# Altium integrated library Analog Devices Operational Amplifiers.IntLib: 2102 symbols (part 17 of 70)
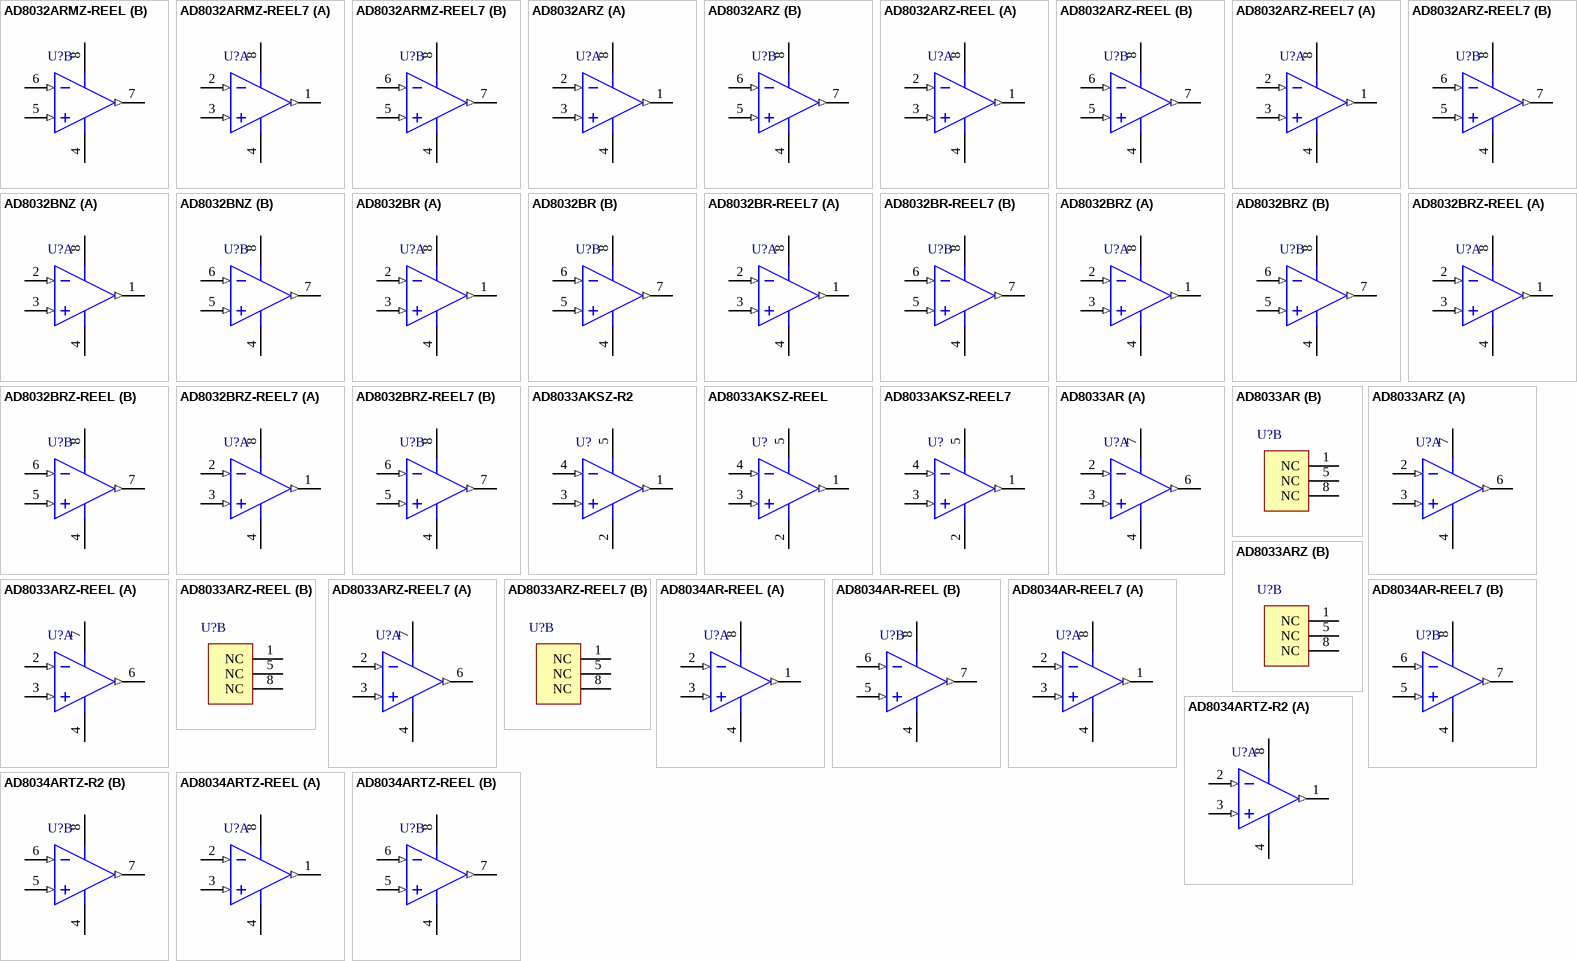
[diagram p130: symbols AD8032ARMZ-REEL to AD8034ARTZ-REEL]

## AD8032BRZ-REEL7
designator U?
Double Channel RRIO Operational Amplifier, 80 MHz BW, 35 V/us SR, Industrial, 8-pin SOIC (R-8), Reel; Generic Part Number: AD8032; Manufacturer: Analog Devices; PartNumber: AD8032BRZ-REEL7; Amplifiers Per Package: 2; Input Bias Current: 450nA; Input Offset Voltage: 0.5mV; Iq/Amp: 1.6mA; Slew Rate: 35V/us; Small Signal Bandwidth: 80MHz; V Span Max: 12V; V Span Min: 2.7V; DatasheetVersion: Rev. D; PackageVersion: 060506-A; PackageReference: R-8; PackageDescription: 8-Pin Standard Small Outline Package, Body 3.9 x 4.9 mm, Pitch 1.27 mm; Supplier 1: Digi-Key; Supplier Part Number 1: AD8032BRZ-REEL7TR-ND; Supplier 2: Digi-Key; Supplier Part Number 2: AD8032BRZ-REEL7CT-ND; Supplier 3: Digi-Key; Supplier Part Number 3: AD8032BRZ-REEL7DKR-ND; Supplier 4: Newark; Supplier Part Number 4: 59K6242; Packing: Reel; Mounting Technology: Surface Mount; Code_JEDEC: MS-012-AA; ComponentLink1Description: Manufacturer URL; ComponentLink1URL: http://www.analog.com/en/index.html; ComponentLink2Description: Datasheet; ComponentLink2URL: http://www.analog.com/static/imported-files/data_sheets/AD8031_8032.pdf; ComponentLink3Description: Package Specification; ComponentLink3URL: http://www.analog.com/static/imported-files/packages/PKG_PDF/SOIC_Narrow%20(R)/R_8.pdf; ComponentLink4Description: Reference Circuit; ComponentLink4URL: http://www.analog.com/en/all-operational-amplifiers-op-amps/operational-amplifiers-op-amps/ad8032/products/product.html#product-recommendations
footprint ADI-R-8_N (SOIC, 8-Leads, Body 4.9x3.9mm, Pitch 1.27mm, IPC Medium Density)
footprint ADI-R-8_L (SOIC, 8-Leads, Body 4.9x3.9mm, Pitch 1.27mm, IPC High Density)
footprint ADI-R-8_M (SOIC, 8-Leads, Body 4.9x3.9mm, Pitch 1.27mm, IPC Low Density)
pins on every part: 4 -VS (power), 8 +VS (power)
part A pins: 1 OUT 1 (out), 2 -IN 1 (in), 3 +IN 1 (in)
part B pins: 5 +IN 2 (in), 6 -IN 2 (in), 7 OUT 2 (out)

## AD8033AKSZ-R2
designator U?
Single Channel Very Low Cost Operational Amplifier, 80 MHz BW, 80 V/us SR, Industrial, 5-pin SOT23 (KS-5), Reel; Generic Part Number: AD8033; Manufacturer: Analog Devices; PartNumber: AD8033AKSZ-R2; Amplifiers Per Package: 1; Input Bias Current: 1.5pA; Input Offset Voltage: 1mV; Iq/Amp: 3.5mA; Slew Rate: 80V/us; Small Signal Bandwidth: 80MHz; V Span Max: 24V; V Span Min: 5V; DatasheetVersion: Rev. D; PackageVersion: 072809-A; PackageReference: KS-5; PackageDescription: 5-Pin Thin Shrink Small Outline Transistor Package, Body 2 x 1.25 mm, Pitch 0.65 mm; Supplier 1: Newark; Supplier Part Number 1: 28M4089; Mounting Technology: Surface Mount; Code_JEDEC: MO-203-AA; ComponentLink1Description: Manufacturer URL; ComponentLink1URL: http://www.analog.com/en/index.html; ComponentLink2Description: Datasheet; ComponentLink2URL: http://www.analog.com/static/imported-files/data_sheets/AD8033_8034.pdf; ComponentLink3Description: Package Specification; ComponentLink3URL: http://www.analog.com/static/imported-files/packages/PKG_PDF/SC70(KS)/KS_5.pdf
footprint ADI-KS-5_N (SOT23, 5-Leads, Body 2x1.25mm, Pitch 0.65mm, IPC Medium Density)
footprint ADI-KS-5_L (SOT23, 5-Leads, Body 2x1.25mm, Pitch 0.65mm, IPC High Density)
footprint ADI-KS-5_M (SOT23, 5-Leads, Body 2x1.25mm, Pitch 0.65mm, IPC Low Density)
pins: 1 VOUT (out), 2 -VS (power), 3 +IN (in), 4 -IN (in), 5 +VS (power)

## AD8033AKSZ-REEL
designator U?
Single Channel Very Low Cost Operational Amplifier, 80 MHz BW, 80 V/us SR, Industrial, 5-pin SOT23 (KS-5), Reel; Generic Part Number: AD8033; Manufacturer: Analog Devices; PartNumber: AD8033AKSZ-REEL; Amplifiers Per Package: 1; Input Bias Current: 1.5pA; Input Offset Voltage: 1mV; Iq/Amp: 3.5mA; Slew Rate: 80V/us; Small Signal Bandwidth: 80MHz; V Span Max: 24V; V Span Min: 5V; DatasheetVersion: Rev. D; PackageVersion: 072809-A; PackageReference: KS-5; PackageDescription: 5-Pin Thin Shrink Small Outline Transistor Package, Body 2 x 1.25 mm, Pitch 0.65 mm; Supplier 1: Digi-Key; Supplier Part Number 1: AD8033AKSZ-REEL-ND; Mounting Technology: Surface Mount; Code_JEDEC: MO-203-AA; ComponentLink1Description: Manufacturer URL; ComponentLink1URL: http://www.analog.com/en/index.html; ComponentLink2Description: Datasheet; ComponentLink2URL: http://www.analog.com/static/imported-files/data_sheets/AD8033_8034.pdf; ComponentLink3Description: Package Specification; ComponentLink3URL: http://www.analog.com/static/imported-files/packages/PKG_PDF/SC70(KS)/KS_5.pdf
footprint ADI-KS-5_N (SOT23, 5-Leads, Body 2x1.25mm, Pitch 0.65mm, IPC Medium Density)
footprint ADI-KS-5_L (SOT23, 5-Leads, Body 2x1.25mm, Pitch 0.65mm, IPC High Density)
footprint ADI-KS-5_M (SOT23, 5-Leads, Body 2x1.25mm, Pitch 0.65mm, IPC Low Density)
pins: 1 VOUT (out), 2 -VS (power), 3 +IN (in), 4 -IN (in), 5 +VS (power)

## AD8033AKSZ-REEL7
designator U?
Single Channel Very Low Cost Operational Amplifier, 80 MHz BW, 80 V/us SR, Industrial, 5-pin SOT23 (KS-5), Reel; Generic Part Number: AD8033; Manufacturer: Analog Devices; PartNumber: AD8033AKSZ-REEL7; Amplifiers Per Package: 1; Input Bias Current: 1.5pA; Input Offset Voltage: 1mV; Iq/Amp: 3.5mA; Slew Rate: 80V/us; Small Signal Bandwidth: 80MHz; V Span Max: 24V; V Span Min: 5V; DatasheetVersion: Rev. D; PackageVersion: 072809-A; PackageReference: KS-5; PackageDescription: 5-Pin Thin Shrink Small Outline Transistor Package, Body 2 x 1.25 mm, Pitch 0.65 mm; Supplier 1: Digi-Key; Supplier Part Number 1: AD8033AKSZ-REEL7TR-ND; Supplier 2: Digi-Key; Supplier Part Number 2: AD8033AKSZ-REEL7CT-ND; Supplier 3: Digi-Key; Supplier Part Number 3: AD8033AKSZ-REEL7DKR-ND; Supplier 4: Newark; Supplier Part Number 4: 59K6244; Mounting Technology: Surface Mount; Code_JEDEC: MO-203-AA; ComponentLink1Description: Manufacturer URL; ComponentLink1URL: http://www.analog.com/en/index.html; ComponentLink2Description: Datasheet; ComponentLink2URL: http://www.analog.com/static/imported-files/data_sheets/AD8033_8034.pdf; ComponentLink3Description: Package Specification; ComponentLink3URL: http://www.analog.com/static/imported-files/packages/PKG_PDF/SC70(KS)/KS_5.pdf
footprint ADI-KS-5_N (SOT23, 5-Leads, Body 2x1.25mm, Pitch 0.65mm, IPC Medium Density)
footprint ADI-KS-5_L (SOT23, 5-Leads, Body 2x1.25mm, Pitch 0.65mm, IPC High Density)
footprint ADI-KS-5_M (SOT23, 5-Leads, Body 2x1.25mm, Pitch 0.65mm, IPC Low Density)
pins: 1 VOUT (out), 2 -VS (power), 3 +IN (in), 4 -IN (in), 5 +VS (power)

## AD8033AR
designator U?
Single Channel Very Low Cost Operational Amplifier, 80 MHz BW, 80 V/us SR, Industrial, 8-pin SOIC (R-8), Tube; Generic Part Number: AD8033; Manufacturer: Analog Devices; PartNumber: AD8033AR; Amplifiers Per Package: 1; Input Bias Current: 1.5pA; Input Offset Voltage: 1mV; Iq/Amp: 3.5mA; Slew Rate: 80V/us; Small Signal Bandwidth: 80MHz; V Span Max: 24V; V Span Min: 5V; DatasheetVersion: Rev. D; PackageVersion: 060506-A; PackageReference: R-8; PackageDescription: 8-Pin Standard Small Outline Package, Body 3.9 x 4.9 mm, Pitch 1.27 mm; Supplier 1: Digi-Key; Supplier Part Number 1: AD8033AR-ND; Mounting Technology: Surface Mount; Code_JEDEC: MS-012-AA; ComponentLink1Description: Manufacturer URL; ComponentLink1URL: http://www.analog.com/en/index.html; ComponentLink2Description: Datasheet; ComponentLink2URL: http://www.analog.com/static/imported-files/data_sheets/AD8033_8034.pdf; ComponentLink3Description: Package Specification; ComponentLink3URL: http://www.analog.com/static/imported-files/packages/PKG_PDF/SOIC_Narrow%20(R)/R_8.pdf
footprint ADI-R-8_N (SOIC, 8-Leads, Body 4.9x3.9mm, Pitch 1.27mm, IPC Medium Density)
footprint ADI-R-8_L (SOIC, 8-Leads, Body 4.9x3.9mm, Pitch 1.27mm, IPC High Density)
footprint ADI-R-8_M (SOIC, 8-Leads, Body 4.9x3.9mm, Pitch 1.27mm, IPC Low Density)
part A pins: 2 -IN (in), 3 +IN (in), 4 -VS (power), 6 VOUT (out), 7 +VS (power)
part B pins: 1 NC, 5 NC, 8 NC

## AD8033ARZ
designator U?
Single Channel Very Low Cost Operational Amplifier, 80 MHz BW, 80 V/us SR, Industrial, 8-pin SOIC (R-8), Tube; Generic Part Number: AD8033; Manufacturer: Analog Devices; PartNumber: AD8033ARZ; Amplifiers Per Package: 1; Input Bias Current: 1.5pA; Input Offset Voltage: 1mV; Iq/Amp: 3.5mA; Slew Rate: 80V/us; Small Signal Bandwidth: 80MHz; V Span Max: 24V; V Span Min: 5V; DatasheetVersion: Rev. D; PackageVersion: 060506-A; PackageReference: R-8; PackageDescription: 8-Pin Standard Small Outline Package, Body 3.9 x 4.9 mm, Pitch 1.27 mm; Supplier 1: Digi-Key; Supplier Part Number 1: AD8033ARZ-ND; Supplier 2: Farnell; Supplier Part Number 2: 1581970; Supplier 3: Newark; Supplier Part Number 3: 59K6245; Mounting Technology: Surface Mount; Code_JEDEC: MS-012-AA; ComponentLink1Description: Manufacturer URL; ComponentLink1URL: http://www.analog.com/en/index.html; ComponentLink2Description: Datasheet; ComponentLink2URL: http://www.analog.com/static/imported-files/data_sheets/AD8033_8034.pdf; ComponentLink3Description: Package Specification; ComponentLink3URL: http://www.analog.com/static/imported-files/packages/PKG_PDF/SOIC_Narrow%20(R)/R_8.pdf
footprint ADI-R-8_N (SOIC, 8-Leads, Body 4.9x3.9mm, Pitch 1.27mm, IPC Medium Density)
footprint ADI-R-8_L (SOIC, 8-Leads, Body 4.9x3.9mm, Pitch 1.27mm, IPC High Density)
footprint ADI-R-8_M (SOIC, 8-Leads, Body 4.9x3.9mm, Pitch 1.27mm, IPC Low Density)
part A pins: 2 -IN (in), 3 +IN (in), 4 -VS (power), 6 VOUT (out), 7 +VS (power)
part B pins: 1 NC, 5 NC, 8 NC

## AD8033ARZ-REEL
designator U?
Single Channel Very Low Cost Operational Amplifier, 80 MHz BW, 80 V/us SR, Industrial, 8-pin SOIC (R-8), Reel; Generic Part Number: AD8033; Manufacturer: Analog Devices; PartNumber: AD8033ARZ-REEL; Amplifiers Per Package: 1; Input Bias Current: 1.5pA; Input Offset Voltage: 1mV; Iq/Amp: 3.5mA; Slew Rate: 80V/us; Small Signal Bandwidth: 80MHz; V Span Max: 24V; V Span Min: 5V; DatasheetVersion: Rev. D; PackageVersion: 060506-A; PackageReference: R-8; PackageDescription: 8-Pin Standard Small Outline Package, Body 3.9 x 4.9 mm, Pitch 1.27 mm; Supplier 1: Digi-Key; Supplier Part Number 1: AD8033ARZ-REEL-ND; Mounting Technology: Surface Mount; Code_JEDEC: MS-012-AA; ComponentLink1Description: Manufacturer URL; ComponentLink1URL: http://www.analog.com/en/index.html; ComponentLink2Description: Datasheet; ComponentLink2URL: http://www.analog.com/static/imported-files/data_sheets/AD8033_8034.pdf; ComponentLink3Description: Package Specification; ComponentLink3URL: http://www.analog.com/static/imported-files/packages/PKG_PDF/SOIC_Narrow%20(R)/R_8.pdf
footprint ADI-R-8_N (SOIC, 8-Leads, Body 4.9x3.9mm, Pitch 1.27mm, IPC Medium Density)
footprint ADI-R-8_L (SOIC, 8-Leads, Body 4.9x3.9mm, Pitch 1.27mm, IPC High Density)
footprint ADI-R-8_M (SOIC, 8-Leads, Body 4.9x3.9mm, Pitch 1.27mm, IPC Low Density)
part A pins: 2 -IN (in), 3 +IN (in), 4 -VS (power), 6 VOUT (out), 7 +VS (power)
part B pins: 1 NC, 5 NC, 8 NC

## AD8033ARZ-REEL7
designator U?
Single Channel Very Low Cost Operational Amplifier, 80 MHz BW, 80 V/us SR, Industrial, 8-pin SOIC (R-8), Reel; Generic Part Number: AD8033; Manufacturer: Analog Devices; PartNumber: AD8033ARZ-REEL7; Amplifiers Per Package: 1; Input Bias Current: 1.5pA; Input Offset Voltage: 1mV; Iq/Amp: 3.5mA; Slew Rate: 80V/us; Small Signal Bandwidth: 80MHz; V Span Max: 24V; V Span Min: 5V; DatasheetVersion: Rev. D; PackageVersion: 060506-A; PackageReference: R-8; PackageDescription: 8-Pin Standard Small Outline Package, Body 3.9 x 4.9 mm, Pitch 1.27 mm; Supplier 1: Digi-Key; Supplier Part Number 1: AD8033ARZ-REEL7-ND; Supplier 2: Newark; Supplier Part Number 2: 59K6247; Mounting Technology: Surface Mount; Code_JEDEC: MS-012-AA; ComponentLink1Description: Manufacturer URL; ComponentLink1URL: http://www.analog.com/en/index.html; ComponentLink2Description: Datasheet; ComponentLink2URL: http://www.analog.com/static/imported-files/data_sheets/AD8033_8034.pdf; ComponentLink3Description: Package Specification; ComponentLink3URL: http://www.analog.com/static/imported-files/packages/PKG_PDF/SOIC_Narrow%20(R)/R_8.pdf
footprint ADI-R-8_N (SOIC, 8-Leads, Body 4.9x3.9mm, Pitch 1.27mm, IPC Medium Density)
footprint ADI-R-8_L (SOIC, 8-Leads, Body 4.9x3.9mm, Pitch 1.27mm, IPC High Density)
footprint ADI-R-8_M (SOIC, 8-Leads, Body 4.9x3.9mm, Pitch 1.27mm, IPC Low Density)
part A pins: 2 -IN (in), 3 +IN (in), 4 -VS (power), 6 VOUT (out), 7 +VS (power)
part B pins: 1 NC, 5 NC, 8 NC

## AD8034AR-REEL
designator U?
Double Channel Very Low Cost Operational Amplifier, 80 MHz BW, 80 V/us SR, Industrial, 8-pin SOIC (R-8), Reel; Generic Part Number: AD8034; Manufacturer: Analog Devices; PartNumber: AD8034AR-REEL; Amplifiers Per Package: 2; Input Bias Current: 1.5pA; Input Offset Voltage: 1mV; Iq/Amp: 3.5mA; Slew Rate: 80V/us; Small Signal Bandwidth: 80MHz; V Span Max: 24V; V Span Min: 5V; DatasheetVersion: Rev. D; PackageVersion: 060506-A; PackageReference: R-8; PackageDescription: 8-Pin Standard Small Outline Package, Body 3.9 x 4.9 mm, Pitch 1.27 mm; Supplier 1: Newark; Supplier Part Number 1: 02H1814; Mounting Technology: Surface Mount; Code_JEDEC: MS-012-AA; ComponentLink1Description: Manufacturer URL; ComponentLink1URL: http://www.analog.com/en/index.html; ComponentLink2Description: Datasheet; ComponentLink2URL: http://www.analog.com/static/imported-files/data_sheets/AD8033_8034.pdf; ComponentLink3Description: Package Specification; ComponentLink3URL: http://www.analog.com/static/imported-files/packages/PKG_PDF/SOIC_Narrow%20(R)/R_8.pdf; ComponentLink4Description: Reference Circuit; ComponentLink4URL: http://www.analog.com/en/all-operational-amplifiers-op-amps/operational-amplifiers-op-amps/ad8034/products/product.html#product-recommendations
footprint ADI-R-8_N (SOIC, 8-Leads, Body 4.9x3.9mm, Pitch 1.27mm, IPC Medium Density)
footprint ADI-R-8_L (SOIC, 8-Leads, Body 4.9x3.9mm, Pitch 1.27mm, IPC High Density)
footprint ADI-R-8_M (SOIC, 8-Leads, Body 4.9x3.9mm, Pitch 1.27mm, IPC Low Density)
pins on every part: 4 -VS (power), 8 +VS (power)
part A pins: 1 VOUT 1 (out), 2 -IN 1 (in), 3 +IN 1 (in)
part B pins: 5 +IN 2 (in), 6 -IN 2 (in), 7 VOUT 2 (out)

## AD8034AR-REEL7
designator U?
Double Channel Very Low Cost Operational Amplifier, 80 MHz BW, 80 V/us SR, Industrial, 8-pin SOIC (R-8), Reel; Generic Part Number: AD8034; Manufacturer: Analog Devices; PartNumber: AD8034AR-REEL7; Amplifiers Per Package: 2; Input Bias Current: 1.5pA; Input Offset Voltage: 1mV; Iq/Amp: 3.5mA; Slew Rate: 80V/us; Small Signal Bandwidth: 80MHz; V Span Max: 24V; V Span Min: 5V; DatasheetVersion: Rev. D; PackageVersion: 060506-A; PackageReference: R-8; PackageDescription: 8-Pin Standard Small Outline Package, Body 3.9 x 4.9 mm, Pitch 1.27 mm; Mounting Technology: Surface Mount; Code_JEDEC: MS-012-AA; ComponentLink1Description: Manufacturer URL; ComponentLink1URL: http://www.analog.com/en/index.html; ComponentLink2Description: Datasheet; ComponentLink2URL: http://www.analog.com/static/imported-files/data_sheets/AD8033_8034.pdf; ComponentLink3Description: Package Specification; ComponentLink3URL: http://www.analog.com/static/imported-files/packages/PKG_PDF/SOIC_Narrow%20(R)/R_8.pdf; ComponentLink4Description: Reference Circuit; ComponentLink4URL: http://www.analog.com/en/all-operational-amplifiers-op-amps/operational-amplifiers-op-amps/ad8034/products/product.html#product-recommendations
footprint ADI-R-8_N (SOIC, 8-Leads, Body 4.9x3.9mm, Pitch 1.27mm, IPC Medium Density)
footprint ADI-R-8_L (SOIC, 8-Leads, Body 4.9x3.9mm, Pitch 1.27mm, IPC High Density)
footprint ADI-R-8_M (SOIC, 8-Leads, Body 4.9x3.9mm, Pitch 1.27mm, IPC Low Density)
pins on every part: 4 -VS (power), 8 +VS (power)
part A pins: 1 VOUT 1 (out), 2 -IN 1 (in), 3 +IN 1 (in)
part B pins: 5 +IN 2 (in), 6 -IN 2 (in), 7 VOUT 2 (out)

## AD8034ARTZ-R2
designator U?
Double Channel Very Low Cost Operational Amplifier, 80 MHz BW, 80 V/us SR, Industrial, 8-pin SOT23 (RJ-8), Reel; Generic Part Number: AD8034; Manufacturer: Analog Devices; PartNumber: AD8034ARTZ-R2; Amplifiers Per Package: 2; Input Bias Current: 1.5pA; Input Offset Voltage: 1mV; Iq/Amp: 3.5mA; Slew Rate: 80V/us; Small Signal Bandwidth: 80MHz; V Span Max: 24V; V Span Min: 5V; DatasheetVersion: Rev. D; PackageVersion: 121608-A; PackageReference: RJ-8; PackageDescription: 8-Pin Small Outline Transistor Package, Body 2.9 x 1.6 mm, Pitch 0.65 mm; Supplier 1: Farnell; Supplier Part Number 1: 2074884RL; Supplier 2: Farnell; Supplier Part Number 2: 2074884; Supplier 3: Newark; Supplier Part Number 3: 88H0124; Mounting Technology: Surface Mount; Code_JEDEC: MO-178-BA; ComponentLink1Description: Manufacturer URL; ComponentLink1URL: http://www.analog.com/en/index.html; ComponentLink2Description: Datasheet; ComponentLink2URL: http://www.analog.com/static/imported-files/data_sheets/AD8033_8034.pdf; ComponentLink3Description: Package Specification; ComponentLink3URL: http://www.analog.com/static/imported-files/packages/PKG_PDF/SOT-23(RJ)/RJ_8.pdf; ComponentLink4Description: Reference Circuit; ComponentLink4URL: http://www.analog.com/en/all-operational-amplifiers-op-amps/operational-amplifiers-op-amps/ad8034/products/product.html#product-recommendations
footprint ADI-RJ-8_V (SOT23, 8-Leads, Body 2.9x1.6mm, Pitch 0.65mm)
pins on every part: 4 -VS (power), 8 +VS (power)
part A pins: 1 VOUT 1 (out), 2 -IN 1 (in), 3 +IN 1 (in)
part B pins: 5 +IN 2 (in), 6 -IN 2 (in), 7 VOUT 2 (out)

## AD8034ARTZ-REEL
designator U?
Double Channel Very Low Cost Operational Amplifier, 80 MHz BW, 80 V/us SR, Industrial, 8-pin SOT23 (RJ-8), Reel; Generic Part Number: AD8034; Manufacturer: Analog Devices; PartNumber: AD8034ARTZ-REEL; Amplifiers Per Package: 2; Input Bias Current: 1.5pA; Input Offset Voltage: 1mV; Iq/Amp: 3.5mA; Slew Rate: 80V/us; Small Signal Bandwidth: 80MHz; V Span Max: 24V; V Span Min: 5V; DatasheetVersion: Rev. D; PackageVersion: 121608-A; PackageReference: RJ-8; PackageDescription: 8-Pin Small Outline Transistor Package, Body 2.9 x 1.6 mm, Pitch 0.65 mm; Supplier 1: Digi-Key; Supplier Part Number 1: AD8034ARTZ-REEL-ND; Mounting Technology: Surface Mount; Code_JEDEC: MO-178-BA; ComponentLink1Description: Manufacturer URL; ComponentLink1URL: http://www.analog.com/en/index.html; ComponentLink2Description: Datasheet; ComponentLink2URL: http://www.analog.com/static/imported-files/data_sheets/AD8033_8034.pdf; ComponentLink3Description: Package Specification; ComponentLink3URL: http://www.analog.com/static/imported-files/packages/PKG_PDF/SOT-23(RJ)/RJ_8.pdf; ComponentLink4Description: Reference Circuit; ComponentLink4URL: http://www.analog.com/en/all-operational-amplifiers-op-amps/operational-amplifiers-op-amps/ad8034/products/product.html#product-recommendations
footprint ADI-RJ-8_V (SOT23, 8-Leads, Body 2.9x1.6mm, Pitch 0.65mm)
pins on every part: 4 -VS (power), 8 +VS (power)
part A pins: 1 VOUT 1 (out), 2 -IN 1 (in), 3 +IN 1 (in)
part B pins: 5 +IN 2 (in), 6 -IN 2 (in), 7 VOUT 2 (out)

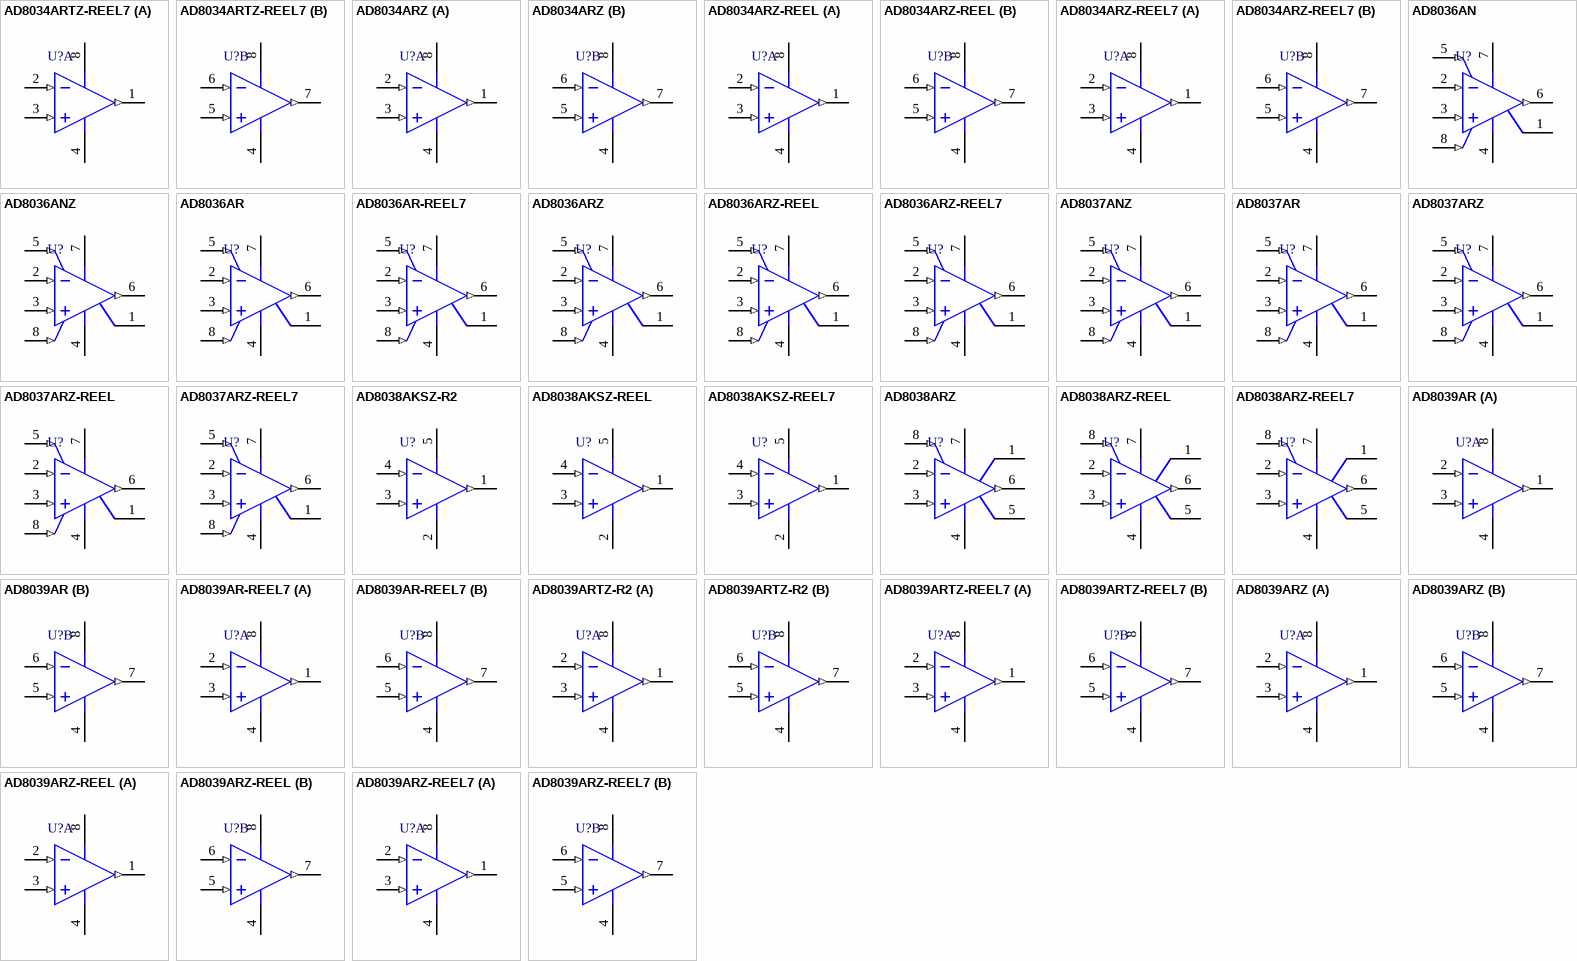
[diagram p25: symbols AD8034ARTZ-REEL7 to AD8039ARZ-REEL7]

## AD8034ARTZ-REEL7
designator U?
Double Channel Very Low Cost Operational Amplifier, 80 MHz BW, 80 V/us SR, Industrial, 8-pin SOT23 (RJ-8), Reel; Generic Part Number: AD8034; Manufacturer: Analog Devices; PartNumber: AD8034ARTZ-REEL7; Amplifiers Per Package: 2; Input Bias Current: 1.5pA; Input Offset Voltage: 1mV; Iq/Amp: 3.5mA; Slew Rate: 80V/us; Small Signal Bandwidth: 80MHz; V Span Max: 24V; V Span Min: 5V; DatasheetVersion: Rev. D; PackageVersion: 121608-A; PackageReference: RJ-8; PackageDescription: 8-Pin Small Outline Transistor Package, Body 2.9 x 1.6 mm, Pitch 0.65 mm; Supplier 1: Digi-Key; Supplier Part Number 1: AD8034ARTZ-REEL7TR-ND; Supplier 2: Digi-Key; Supplier Part Number 2: AD8034ARTZ-REEL7CT-ND; Supplier 3: Digi-Key; Supplier Part Number 3: AD8034ARTZ-REEL7DKR-ND; Supplier 4: Newark; Supplier Part Number 4: 88H0123; Mounting Technology: Surface Mount; Code_JEDEC: MO-178-BA; ComponentLink1Description: Manufacturer URL; ComponentLink1URL: http://www.analog.com/en/index.html; ComponentLink2Description: Datasheet; ComponentLink2URL: http://www.analog.com/static/imported-files/data_sheets/AD8033_8034.pdf; ComponentLink3Description: Package Specification; ComponentLink3URL: http://www.analog.com/static/imported-files/packages/PKG_PDF/SOT-23(RJ)/RJ_8.pdf; ComponentLink4Description: Reference Circuit; ComponentLink4URL: http://www.analog.com/en/all-operational-amplifiers-op-amps/operational-amplifiers-op-amps/ad8034/products/product.html#product-recommendations
footprint ADI-RJ-8_V (SOT23, 8-Leads, Body 2.9x1.6mm, Pitch 0.65mm)
pins on every part: 4 -VS (power), 8 +VS (power)
part A pins: 1 VOUT 1 (out), 2 -IN 1 (in), 3 +IN 1 (in)
part B pins: 5 +IN 2 (in), 6 -IN 2 (in), 7 VOUT 2 (out)

## AD8034ARZ
designator U?
Double Channel Very Low Cost Operational Amplifier, 80 MHz BW, 80 V/us SR, Industrial, 8-pin SOIC (R-8), Tube; Generic Part Number: AD8034; Manufacturer: Analog Devices; PartNumber: AD8034ARZ; Amplifiers Per Package: 2; Input Bias Current: 1.5pA; Input Offset Voltage: 1mV; Iq/Amp: 3.5mA; Slew Rate: 80V/us; Small Signal Bandwidth: 80MHz; V Span Max: 24V; V Span Min: 5V; DatasheetVersion: Rev. D; PackageVersion: 060506-A; PackageReference: R-8; PackageDescription: 8-Pin Standard Small Outline Package, Body 3.9 x 4.9 mm, Pitch 1.27 mm; Supplier 1: Digi-Key; Supplier Part Number 1: AD8034ARZ-ND; Supplier 2: Farnell; Supplier Part Number 2: 8621527RL; Supplier 3: Farnell; Supplier Part Number 3: 8621527; Supplier 4: Newark; Supplier Part Number 4: 19M0918; Mounting Technology: Surface Mount; Code_JEDEC: MS-012-AA; ComponentLink1Description: Manufacturer URL; ComponentLink1URL: http://www.analog.com/en/index.html; ComponentLink2Description: Datasheet; ComponentLink2URL: http://www.analog.com/static/imported-files/data_sheets/AD8033_8034.pdf; ComponentLink3Description: Package Specification; ComponentLink3URL: http://www.analog.com/static/imported-files/packages/PKG_PDF/SOIC_Narrow%20(R)/R_8.pdf; ComponentLink4Description: Reference Circuit; ComponentLink4URL: http://www.analog.com/en/all-operational-amplifiers-op-amps/operational-amplifiers-op-amps/ad8034/products/product.html#product-recommendations
footprint ADI-R-8_N (SOIC, 8-Leads, Body 4.9x3.9mm, Pitch 1.27mm, IPC Medium Density)
footprint ADI-R-8_L (SOIC, 8-Leads, Body 4.9x3.9mm, Pitch 1.27mm, IPC High Density)
footprint ADI-R-8_M (SOIC, 8-Leads, Body 4.9x3.9mm, Pitch 1.27mm, IPC Low Density)
pins on every part: 4 -VS (power), 8 +VS (power)
part A pins: 1 VOUT 1 (out), 2 -IN 1 (in), 3 +IN 1 (in)
part B pins: 5 +IN 2 (in), 6 -IN 2 (in), 7 VOUT 2 (out)

## AD8034ARZ-REEL
designator U?
Double Channel Very Low Cost Operational Amplifier, 80 MHz BW, 80 V/us SR, Industrial, 8-pin SOIC (R-8), Reel; Generic Part Number: AD8034; Manufacturer: Analog Devices; PartNumber: AD8034ARZ-REEL; Amplifiers Per Package: 2; Input Bias Current: 1.5pA; Input Offset Voltage: 1mV; Iq/Amp: 3.5mA; Slew Rate: 80V/us; Small Signal Bandwidth: 80MHz; V Span Max: 24V; V Span Min: 5V; DatasheetVersion: Rev. D; PackageVersion: 060506-A; PackageReference: R-8; PackageDescription: 8-Pin Standard Small Outline Package, Body 3.9 x 4.9 mm, Pitch 1.27 mm; Supplier 1: Digi-Key; Supplier Part Number 1: AD8034ARZ-REELTR-ND; Supplier 2: Digi-Key; Supplier Part Number 2: AD8034ARZ-REELCT-ND; Supplier 3: Digi-Key; Supplier Part Number 3: AD8034ARZ-REELDKR-ND; Supplier 4: Newark; Supplier Part Number 4: 88H0125; Mounting Technology: Surface Mount; Code_JEDEC: MS-012-AA; ComponentLink1Description: Manufacturer URL; ComponentLink1URL: http://www.analog.com/en/index.html; ComponentLink2Description: Datasheet; ComponentLink2URL: http://www.analog.com/static/imported-files/data_sheets/AD8033_8034.pdf; ComponentLink3Description: Package Specification; ComponentLink3URL: http://www.analog.com/static/imported-files/packages/PKG_PDF/SOIC_Narrow%20(R)/R_8.pdf; ComponentLink4Description: Reference Circuit; ComponentLink4URL: http://www.analog.com/en/all-operational-amplifiers-op-amps/operational-amplifiers-op-amps/ad8034/products/product.html#product-recommendations
footprint ADI-R-8_N (SOIC, 8-Leads, Body 4.9x3.9mm, Pitch 1.27mm, IPC Medium Density)
footprint ADI-R-8_L (SOIC, 8-Leads, Body 4.9x3.9mm, Pitch 1.27mm, IPC High Density)
footprint ADI-R-8_M (SOIC, 8-Leads, Body 4.9x3.9mm, Pitch 1.27mm, IPC Low Density)
pins on every part: 4 -VS (power), 8 +VS (power)
part A pins: 1 VOUT 1 (out), 2 -IN 1 (in), 3 +IN 1 (in)
part B pins: 5 +IN 2 (in), 6 -IN 2 (in), 7 VOUT 2 (out)

## AD8034ARZ-REEL7
designator U?
Double Channel Very Low Cost Operational Amplifier, 80 MHz BW, 80 V/us SR, Industrial, 8-pin SOIC (R-8), Reel; Generic Part Number: AD8034; Manufacturer: Analog Devices; PartNumber: AD8034ARZ-REEL7; Amplifiers Per Package: 2; Input Bias Current: 1.5pA; Input Offset Voltage: 1mV; Iq/Amp: 3.5mA; Slew Rate: 80V/us; Small Signal Bandwidth: 80MHz; V Span Max: 24V; V Span Min: 5V; DatasheetVersion: Rev. D; PackageVersion: 060506-A; PackageReference: R-8; PackageDescription: 8-Pin Standard Small Outline Package, Body 3.9 x 4.9 mm, Pitch 1.27 mm; Supplier 1: Digi-Key; Supplier Part Number 1: AD8034ARZ-REEL7-ND; Supplier 2: Newark; Supplier Part Number 2: 88H0126; Mounting Technology: Surface Mount; Code_JEDEC: MS-012-AA; ComponentLink1Description: Manufacturer URL; ComponentLink1URL: http://www.analog.com/en/index.html; ComponentLink2Description: Datasheet; ComponentLink2URL: http://www.analog.com/static/imported-files/data_sheets/AD8033_8034.pdf; ComponentLink3Description: Package Specification; ComponentLink3URL: http://www.analog.com/static/imported-files/packages/PKG_PDF/SOIC_Narrow%20(R)/R_8.pdf; ComponentLink4Description: Reference Circuit; ComponentLink4URL: http://www.analog.com/en/all-operational-amplifiers-op-amps/operational-amplifiers-op-amps/ad8034/products/product.html#product-recommendations
footprint ADI-R-8_N (SOIC, 8-Leads, Body 4.9x3.9mm, Pitch 1.27mm, IPC Medium Density)
footprint ADI-R-8_L (SOIC, 8-Leads, Body 4.9x3.9mm, Pitch 1.27mm, IPC High Density)
footprint ADI-R-8_M (SOIC, 8-Leads, Body 4.9x3.9mm, Pitch 1.27mm, IPC Low Density)
pins on every part: 4 -VS (power), 8 +VS (power)
part A pins: 1 VOUT 1 (out), 2 -IN 1 (in), 3 +IN 1 (in)
part B pins: 5 +IN 2 (in), 6 -IN 2 (in), 7 VOUT 2 (out)

## AD8036AN
designator U?
Single Channel Wide Bandwidth Operational Amplifier, 240 MHz BW, 1.2 KV/us SR, Industrial, 8-pin DIP (N-8), Tube; Generic Part Number: AD8036; Manufacturer: Analog Devices; PartNumber: AD8036AN; Amplifiers Per Package: 1; Input Bias Current: 4uA; Input Offset Voltage: 2mV; Iq/Amp: 21.5mA; Small Signal Bandwidth: 240MHz; V Span Max: 12V; V Span Min: 6V; DatasheetVersion: Rev. B; PackageVersion: 070606-A; PackageReference: N-8; PackageDescription: 8-Pin Plastic Dual In-Line Package, Row spacing 7.62 mm, Pitch 2.54 mm; Supplier 1: Digi-Key; Supplier Part Number 1: AD8036AN-ND; Slew Rate: 1.2KV/us; Mounting Technology: Through Hole; Code_JEDEC: MS-001; ComponentLink1Description: Manufacturer URL; ComponentLink1URL: http://www.analog.com/en/index.html; ComponentLink2Description: Datasheet; ComponentLink2URL: http://www.analog.com/static/imported-files/data_sheets/AD8036_8037.pdf; ComponentLink3Description: Package Specification; ComponentLink3URL: http:/www.analog.com/static/imported-files/packages/PKG_PDF/PDIP(N)/N_8.pdf
footprint ADI-N-8 (DIP, 8-Leads, Body 9.59x6.6mm, Pitch 2.54mm)
pins: 1 NC, 2 -IN (in), 3 +IN (in), 4 -VS (power), 5 VL (in), 6 OUT (out), 7 +VS (power), 8 VH (in)

## AD8036ANZ
designator U?
Single Channel Wide Bandwidth Operational Amplifier, 240 MHz BW, 1.2 KV/us SR, Industrial, 8-pin DIP (N-8), Tube; Generic Part Number: AD8036; Manufacturer: Analog Devices; PartNumber: AD8036ANZ; Amplifiers Per Package: 1; Input Bias Current: 4uA; Input Offset Voltage: 2mV; Iq/Amp: 21.5mA; Small Signal Bandwidth: 240MHz; V Span Max: 12V; V Span Min: 6V; DatasheetVersion: Rev. B; PackageVersion: 070606-A; PackageReference: N-8; PackageDescription: 8-Pin Plastic Dual In-Line Package, Row spacing 7.62 mm, Pitch 2.54 mm; Supplier 1: Digi-Key; Supplier Part Number 1: AD8036ANZ-ND; Supplier 2: Farnell; Supplier Part Number 2: 1079409; Supplier 3: Newark; Supplier Part Number 3: 31M4453; Supplier 4: Newark; Supplier Part Number 4: 59K6250; Slew Rate: 1.2KV/us; Mounting Technology: Through Hole; Code_JEDEC: MS-001; ComponentLink1Description: Manufacturer URL; ComponentLink1URL: http://www.analog.com/en/index.html; ComponentLink2Description: Datasheet; ComponentLink2URL: http://www.analog.com/static/imported-files/data_sheets/AD8036_8037.pdf; ComponentLink3Description: Package Specification; ComponentLink3URL: http:/www.analog.com/static/imported-files/packages/PKG_PDF/PDIP(N)/N_8.pdf
footprint ADI-N-8 (DIP, 8-Leads, Body 9.59x6.6mm, Pitch 2.54mm)
pins: 1 NC, 2 -IN (in), 3 +IN (in), 4 -VS (power), 5 VL (in), 6 OUT (out), 7 +VS (power), 8 VH (in)

## AD8036AR
designator U?
Single Channel Wide Bandwidth Operational Amplifier, 240 MHz BW, 1.2 KV/us SR, Industrial, 8-pin SOIC (R-8), Tube; Generic Part Number: AD8036; Manufacturer: Analog Devices; PartNumber: AD8036AR; Amplifiers Per Package: 1; Input Bias Current: 4uA; Input Offset Voltage: 2mV; Iq/Amp: 21.5mA; Small Signal Bandwidth: 240MHz; V Span Max: 12V; V Span Min: 6V; DatasheetVersion: Rev. B; PackageVersion: 060506-A; PackageReference: R-8; PackageDescription: 8-Pin Standard Small Outline Package, Body 3.9 x 4.9 mm, Pitch 1.27 mm; Supplier 1: Digi-Key; Supplier Part Number 1: AD8036AR-ND; Slew Rate: 1.2KV/us; Mounting Technology: Surface Mount; Code_JEDEC: MS-012-AA; ComponentLink1Description: Manufacturer URL; ComponentLink1URL: http://www.analog.com/en/index.html; ComponentLink2Description: Datasheet; ComponentLink2URL: http://www.analog.com/static/imported-files/data_sheets/AD8036_8037.pdf; ComponentLink3Description: Package Specification; ComponentLink3URL: http://www.analog.com/static/imported-files/packages/PKG_PDF/SOIC_Narrow%20(R)/R_8.pdf
footprint ADI-R-8_N (SOIC, 8-Leads, Body 4.9x3.9mm, Pitch 1.27mm, IPC Medium Density)
footprint ADI-R-8_L (SOIC, 8-Leads, Body 4.9x3.9mm, Pitch 1.27mm, IPC High Density)
footprint ADI-R-8_M (SOIC, 8-Leads, Body 4.9x3.9mm, Pitch 1.27mm, IPC Low Density)
pins: 1 NC, 2 -IN (in), 3 +IN (in), 4 -VS (power), 5 VL (in), 6 OUT (out), 7 +VS (power), 8 VH (in)

## AD8036AR-REEL7
designator U?
Single Channel Wide Bandwidth Operational Amplifier, 240 MHz BW, 1.2 KV/us SR, Industrial, 8-pin SOIC (R-8), Reel; Generic Part Number: AD8036; Manufacturer: Analog Devices; PartNumber: AD8036AR-REEL7; Amplifiers Per Package: 1; Input Bias Current: 4uA; Input Offset Voltage: 2mV; Iq/Amp: 21.5mA; Small Signal Bandwidth: 240MHz; V Span Max: 12V; V Span Min: 6V; DatasheetVersion: Rev. B; PackageVersion: 060506-A; PackageReference: R-8; PackageDescription: 8-Pin Standard Small Outline Package, Body 3.9 x 4.9 mm, Pitch 1.27 mm; Supplier 1: Digi-Key; Supplier Part Number 1: AD8036AR-REEL7-ND; Supplier 2: Newark; Supplier Part Number 2: 09B6384; Slew Rate: 1.2KV/us; Mounting Technology: Surface Mount; Code_JEDEC: MS-012-AA; ComponentLink1Description: Manufacturer URL; ComponentLink1URL: http://www.analog.com/en/index.html; ComponentLink2Description: Datasheet; ComponentLink2URL: http://www.analog.com/static/imported-files/data_sheets/AD8036_8037.pdf; ComponentLink3Description: Package Specification; ComponentLink3URL: http://www.analog.com/static/imported-files/packages/PKG_PDF/SOIC_Narrow%20(R)/R_8.pdf
footprint ADI-R-8_N (SOIC, 8-Leads, Body 4.9x3.9mm, Pitch 1.27mm, IPC Medium Density)
footprint ADI-R-8_L (SOIC, 8-Leads, Body 4.9x3.9mm, Pitch 1.27mm, IPC High Density)
footprint ADI-R-8_M (SOIC, 8-Leads, Body 4.9x3.9mm, Pitch 1.27mm, IPC Low Density)
pins: 1 NC, 2 -IN (in), 3 +IN (in), 4 -VS (power), 5 VL (in), 6 OUT (out), 7 +VS (power), 8 VH (in)

## AD8036ARZ
designator U?
Single Channel Wide Bandwidth Operational Amplifier, 240 MHz BW, 1.2 KV/us SR, Industrial, 8-pin SOIC (R-8), Tube; Generic Part Number: AD8036; Manufacturer: Analog Devices; PartNumber: AD8036ARZ; Amplifiers Per Package: 1; Input Bias Current: 4uA; Input Offset Voltage: 2mV; Iq/Amp: 21.5mA; Small Signal Bandwidth: 240MHz; V Span Max: 12V; V Span Min: 6V; DatasheetVersion: Rev. B; PackageVersion: 060506-A; PackageReference: R-8; PackageDescription: 8-Pin Standard Small Outline Package, Body 3.9 x 4.9 mm, Pitch 1.27 mm; Supplier 1: Digi-Key; Supplier Part Number 1: AD8036ARZ-ND; Supplier 2: Newark; Supplier Part Number 2: 88H0127; Slew Rate: 1.2KV/us; Mounting Technology: Surface Mount; Code_JEDEC: MS-012-AA; ComponentLink1Description: Manufacturer URL; ComponentLink1URL: http://www.analog.com/en/index.html; ComponentLink2Description: Datasheet; ComponentLink2URL: http://www.analog.com/static/imported-files/data_sheets/AD8036_8037.pdf; ComponentLink3Description: Package Specification; ComponentLink3URL: http://www.analog.com/static/imported-files/packages/PKG_PDF/SOIC_Narrow%20(R)/R_8.pdf
footprint ADI-R-8_N (SOIC, 8-Leads, Body 4.9x3.9mm, Pitch 1.27mm, IPC Medium Density)
footprint ADI-R-8_L (SOIC, 8-Leads, Body 4.9x3.9mm, Pitch 1.27mm, IPC High Density)
footprint ADI-R-8_M (SOIC, 8-Leads, Body 4.9x3.9mm, Pitch 1.27mm, IPC Low Density)
pins: 1 NC, 2 -IN (in), 3 +IN (in), 4 -VS (power), 5 VL (in), 6 OUT (out), 7 +VS (power), 8 VH (in)

## AD8036ARZ-REEL
designator U?
Single Channel Wide Bandwidth Operational Amplifier, 240 MHz BW, 1.2 KV/us SR, Industrial, 8-pin SOIC (R-8), Reel; Generic Part Number: AD8036; Manufacturer: Analog Devices; PartNumber: AD8036ARZ-REEL; Amplifiers Per Package: 1; Input Bias Current: 4uA; Input Offset Voltage: 2mV; Iq/Amp: 21.5mA; Small Signal Bandwidth: 240MHz; V Span Max: 12V; V Span Min: 6V; DatasheetVersion: Rev. B; PackageVersion: 060506-A; PackageReference: R-8; PackageDescription: 8-Pin Standard Small Outline Package, Body 3.9 x 4.9 mm, Pitch 1.27 mm; Supplier 1: Digi-Key; Supplier Part Number 1: AD8036ARZ-REEL-ND; Slew Rate: 1.2KV/us; Mounting Technology: Surface Mount; Code_JEDEC: MS-012-AA; ComponentLink1Description: Manufacturer URL; ComponentLink1URL: http://www.analog.com/en/index.html; ComponentLink2Description: Datasheet; ComponentLink2URL: http://www.analog.com/static/imported-files/data_sheets/AD8036_8037.pdf; ComponentLink3Description: Package Specification; ComponentLink3URL: http://www.analog.com/static/imported-files/packages/PKG_PDF/SOIC_Narrow%20(R)/R_8.pdf
footprint ADI-R-8_N (SOIC, 8-Leads, Body 4.9x3.9mm, Pitch 1.27mm, IPC Medium Density)
footprint ADI-R-8_L (SOIC, 8-Leads, Body 4.9x3.9mm, Pitch 1.27mm, IPC High Density)
footprint ADI-R-8_M (SOIC, 8-Leads, Body 4.9x3.9mm, Pitch 1.27mm, IPC Low Density)
pins: 1 NC, 2 -IN (in), 3 +IN (in), 4 -VS (power), 5 VL (in), 6 OUT (out), 7 +VS (power), 8 VH (in)

## AD8036ARZ-REEL7
designator U?
Single Channel Wide Bandwidth Operational Amplifier, 240 MHz BW, 1.2 KV/us SR, Industrial, 8-pin SOIC (R-8), Reel; Generic Part Number: AD8036; Manufacturer: Analog Devices; PartNumber: AD8036ARZ-REEL7; Amplifiers Per Package: 1; Input Bias Current: 4uA; Input Offset Voltage: 2mV; Iq/Amp: 21.5mA; Small Signal Bandwidth: 240MHz; V Span Max: 12V; V Span Min: 6V; DatasheetVersion: Rev. B; PackageVersion: 060506-A; PackageReference: R-8; PackageDescription: 8-Pin Standard Small Outline Package, Body 3.9 x 4.9 mm, Pitch 1.27 mm; Supplier 1: Digi-Key; Supplier Part Number 1: AD8036ARZ-REEL7-ND; Slew Rate: 1.2KV/us; Mounting Technology: Surface Mount; Code_JEDEC: MS-012-AA; ComponentLink1Description: Manufacturer URL; ComponentLink1URL: http://www.analog.com/en/index.html; ComponentLink2Description: Datasheet; ComponentLink2URL: http://www.analog.com/static/imported-files/data_sheets/AD8036_8037.pdf; ComponentLink3Description: Package Specification; ComponentLink3URL: http://www.analog.com/static/imported-files/packages/PKG_PDF/SOIC_Narrow%20(R)/R_8.pdf
footprint ADI-R-8_N (SOIC, 8-Leads, Body 4.9x3.9mm, Pitch 1.27mm, IPC Medium Density)
footprint ADI-R-8_L (SOIC, 8-Leads, Body 4.9x3.9mm, Pitch 1.27mm, IPC High Density)
footprint ADI-R-8_M (SOIC, 8-Leads, Body 4.9x3.9mm, Pitch 1.27mm, IPC Low Density)
pins: 1 NC, 2 -IN (in), 3 +IN (in), 4 -VS (power), 5 VL (in), 6 OUT (out), 7 +VS (power), 8 VH (in)

## AD8037ANZ
designator U?
Single Channel Wide Bandwidth Operational Amplifier, 270 MHz BW, 1.5 KV/us SR, Industrial, 8-pin DIP (N-8), Tube; Generic Part Number: AD8037; Manufacturer: Analog Devices; PartNumber: AD8037ANZ; Amplifiers Per Package: 1; Input Bias Current: 3uA; Input Offset Voltage: 2mV; Iq/Amp: 19.5mA; Small Signal Bandwidth: 270MHz; V Span Max: 12V; V Span Min: 6V; DatasheetVersion: Rev. B; PackageVersion: 070606-A; PackageReference: N-8; PackageDescription: 8-Pin Plastic Dual In-Line Package, Row spacing 7.62 mm, Pitch 2.54 mm; Supplier 1: Digi-Key; Supplier Part Number 1: AD8037ANZ-ND; Supplier 2: Farnell; Supplier Part Number 2: 1079416; Supplier 3: Newark; Supplier Part Number 3: 31M4454; Supplier 4: Newark; Supplier Part Number 4: 59K6251; Slew Rate: 1.5KV/us; Mounting Technology: Through Hole; Code_JEDEC: MS-001; ComponentLink1Description: Manufacturer URL; ComponentLink1URL: http://www.analog.com/en/index.html; ComponentLink2Description: Datasheet; ComponentLink2URL: http://www.analog.com/static/imported-files/data_sheets/AD8036_8037.pdf; ComponentLink3Description: Package Specification; ComponentLink3URL: http:/www.analog.com/static/imported-files/packages/PKG_PDF/PDIP(N)/N_8.pdf
footprint ADI-N-8 (DIP, 8-Leads, Body 9.59x6.6mm, Pitch 2.54mm)
pins: 1 NC, 2 -IN (in), 3 +IN (in), 4 -VS (power), 5 VL (in), 6 OUT (out), 7 +VS (power), 8 VH (in)

## AD8037AR
designator U?
Single Channel Wide Bandwidth Operational Amplifier, 270 MHz BW, 1.5 KV/us SR, Industrial, 8-pin SOIC (R-8), Tube; Generic Part Number: AD8037; Manufacturer: Analog Devices; PartNumber: AD8037AR; Amplifiers Per Package: 1; Input Bias Current: 3uA; Input Offset Voltage: 2mV; Iq/Amp: 19.5mA; Small Signal Bandwidth: 270MHz; V Span Max: 12V; V Span Min: 6V; DatasheetVersion: Rev. B; PackageVersion: 060506-A; PackageReference: R-8; PackageDescription: 8-Pin Standard Small Outline Package, Body 3.9 x 4.9 mm, Pitch 1.27 mm; Supplier 1: Digi-Key; Supplier Part Number 1: AD8037AR-ND; Slew Rate: 1.5KV/us; Mounting Technology: Surface Mount; Code_JEDEC: MS-012-AA; ComponentLink1Description: Manufacturer URL; ComponentLink1URL: http://www.analog.com/en/index.html; ComponentLink2Description: Datasheet; ComponentLink2URL: http://www.analog.com/static/imported-files/data_sheets/AD8036_8037.pdf; ComponentLink3Description: Package Specification; ComponentLink3URL: http://www.analog.com/static/imported-files/packages/PKG_PDF/SOIC_Narrow%20(R)/R_8.pdf
footprint ADI-R-8_N (SOIC, 8-Leads, Body 4.9x3.9mm, Pitch 1.27mm, IPC Medium Density)
footprint ADI-R-8_L (SOIC, 8-Leads, Body 4.9x3.9mm, Pitch 1.27mm, IPC High Density)
footprint ADI-R-8_M (SOIC, 8-Leads, Body 4.9x3.9mm, Pitch 1.27mm, IPC Low Density)
pins: 1 NC, 2 -IN (in), 3 +IN (in), 4 -VS (power), 5 VL (in), 6 OUT (out), 7 +VS (power), 8 VH (in)

## AD8037ARZ
designator U?
Single Channel Wide Bandwidth Operational Amplifier, 270 MHz BW, 1.5 KV/us SR, Industrial, 8-pin SOIC (R-8), Tube; Generic Part Number: AD8037; Manufacturer: Analog Devices; PartNumber: AD8037ARZ; Amplifiers Per Package: 1; Input Bias Current: 3uA; Input Offset Voltage: 2mV; Iq/Amp: 19.5mA; Small Signal Bandwidth: 270MHz; V Span Max: 12V; V Span Min: 6V; DatasheetVersion: Rev. B; PackageVersion: 060506-A; PackageReference: R-8; PackageDescription: 8-Pin Standard Small Outline Package, Body 3.9 x 4.9 mm, Pitch 1.27 mm; Supplier 1: Digi-Key; Supplier Part Number 1: AD8037ARZ-ND; Supplier 2: Newark; Supplier Part Number 2: 59K6253; Slew Rate: 1.5KV/us; Mounting Technology: Surface Mount; Code_JEDEC: MS-012-AA; ComponentLink1Description: Manufacturer URL; ComponentLink1URL: http://www.analog.com/en/index.html; ComponentLink2Description: Datasheet; ComponentLink2URL: http://www.analog.com/static/imported-files/data_sheets/AD8036_8037.pdf; ComponentLink3Description: Package Specification; ComponentLink3URL: http://www.analog.com/static/imported-files/packages/PKG_PDF/SOIC_Narrow%20(R)/R_8.pdf
footprint ADI-R-8_N (SOIC, 8-Leads, Body 4.9x3.9mm, Pitch 1.27mm, IPC Medium Density)
footprint ADI-R-8_L (SOIC, 8-Leads, Body 4.9x3.9mm, Pitch 1.27mm, IPC High Density)
footprint ADI-R-8_M (SOIC, 8-Leads, Body 4.9x3.9mm, Pitch 1.27mm, IPC Low Density)
pins: 1 NC, 2 -IN (in), 3 +IN (in), 4 -VS (power), 5 VL (in), 6 OUT (out), 7 +VS (power), 8 VH (in)

## AD8037ARZ-REEL
designator U?
Single Channel Wide Bandwidth Operational Amplifier, 270 MHz BW, 1.5 KV/us SR, Industrial, 8-pin SOIC (R-8), Reel; Generic Part Number: AD8037; Manufacturer: Analog Devices; PartNumber: AD8037ARZ-REEL; Amplifiers Per Package: 1; Input Bias Current: 3uA; Input Offset Voltage: 2mV; Iq/Amp: 19.5mA; Small Signal Bandwidth: 270MHz; V Span Max: 12V; V Span Min: 6V; DatasheetVersion: Rev. B; PackageVersion: 060506-A; PackageReference: R-8; PackageDescription: 8-Pin Standard Small Outline Package, Body 3.9 x 4.9 mm, Pitch 1.27 mm; Supplier 1: Digi-Key; Supplier Part Number 1: AD8037ARZ-REEL-ND; Supplier 2: Newark; Supplier Part Number 2: 59K6254; Slew Rate: 1.5KV/us; Mounting Technology: Surface Mount; Code_JEDEC: MS-012-AA; ComponentLink1Description: Manufacturer URL; ComponentLink1URL: http://www.analog.com/en/index.html; ComponentLink2Description: Datasheet; ComponentLink2URL: http://www.analog.com/static/imported-files/data_sheets/AD8036_8037.pdf; ComponentLink3Description: Package Specification; ComponentLink3URL: http://www.analog.com/static/imported-files/packages/PKG_PDF/SOIC_Narrow%20(R)/R_8.pdf
footprint ADI-R-8_N (SOIC, 8-Leads, Body 4.9x3.9mm, Pitch 1.27mm, IPC Medium Density)
footprint ADI-R-8_L (SOIC, 8-Leads, Body 4.9x3.9mm, Pitch 1.27mm, IPC High Density)
footprint ADI-R-8_M (SOIC, 8-Leads, Body 4.9x3.9mm, Pitch 1.27mm, IPC Low Density)
pins: 1 NC, 2 -IN (in), 3 +IN (in), 4 -VS (power), 5 VL (in), 6 OUT (out), 7 +VS (power), 8 VH (in)

## AD8037ARZ-REEL7
designator U?
Single Channel Wide Bandwidth Operational Amplifier, 270 MHz BW, 1.5 KV/us SR, Industrial, 8-pin SOIC (R-8), Reel; Generic Part Number: AD8037; Manufacturer: Analog Devices; PartNumber: AD8037ARZ-REEL7; Amplifiers Per Package: 1; Input Bias Current: 3uA; Input Offset Voltage: 2mV; Iq/Amp: 19.5mA; Small Signal Bandwidth: 270MHz; V Span Max: 12V; V Span Min: 6V; DatasheetVersion: Rev. B; PackageVersion: 060506-A; PackageReference: R-8; PackageDescription: 8-Pin Standard Small Outline Package, Body 3.9 x 4.9 mm, Pitch 1.27 mm; Supplier 1: Digi-Key; Supplier Part Number 1: AD8037ARZ-REEL7-ND; Supplier 2: Newark; Supplier Part Number 2: 59K6255; Slew Rate: 1.5KV/us; Mounting Technology: Surface Mount; Code_JEDEC: MS-012-AA; ComponentLink1Description: Manufacturer URL; ComponentLink1URL: http://www.analog.com/en/index.html; ComponentLink2Description: Datasheet; ComponentLink2URL: http://www.analog.com/static/imported-files/data_sheets/AD8036_8037.pdf; ComponentLink3Description: Package Specification; ComponentLink3URL: http://www.analog.com/static/imported-files/packages/PKG_PDF/SOIC_Narrow%20(R)/R_8.pdf
footprint ADI-R-8_N (SOIC, 8-Leads, Body 4.9x3.9mm, Pitch 1.27mm, IPC Medium Density)
footprint ADI-R-8_L (SOIC, 8-Leads, Body 4.9x3.9mm, Pitch 1.27mm, IPC High Density)
footprint ADI-R-8_M (SOIC, 8-Leads, Body 4.9x3.9mm, Pitch 1.27mm, IPC Low Density)
pins: 1 NC, 2 -IN (in), 3 +IN (in), 4 -VS (power), 5 VL (in), 6 OUT (out), 7 +VS (power), 8 VH (in)

## AD8038AKSZ-R2
designator U?
Single Channel Low Power Operational Amplifier, 350 MHz BW, 425 V/us SR, Industrial, 5-pin SOT23 (KS-5), Reel; Generic Part Number: AD8038; Manufacturer: Analog Devices; PartNumber: AD8038AKSZ-R2; Amplifiers Per Package: 1; Input Bias Current: 400nA; Input Offset Voltage: 500uV; Iq/Amp: 1.5mA; Small Signal Bandwidth: 350MHz; V Span Max: 12V; V Span Min: 3V; DatasheetVersion: Rev. G; PackageVersion: 072809-A; PackageReference: KS-5; PackageDescription: 5-Pin Thin Shrink Small Outline Transistor Package, Body 2 x 1.25 mm, Pitch 0.65 mm; Supplier 1: Newark; Supplier Part Number 1: 59K6258; Slew Rate: 425V/us; Mounting Technology: Surface Mount; Code_JEDEC: MO-203-AA; ComponentLink1Description: Manufacturer URL; ComponentLink1URL: http://www.analog.com/en/index.html; ComponentLink2Description: Datasheet; ComponentLink2URL: http://www.analog.com/static/imported-files/data_sheets/AD8038_8039.pdf; ComponentLink3Description: Package Specification; ComponentLink3URL: http://www.analog.com/static/imported-files/packages/PKG_PDF/SC70(KS)/KS_5.pdf; ComponentLink4Description: Reference Circuit; ComponentLink4URL: http://www.analog.com/en/all-operational-amplifiers-op-amps/operational-amplifiers-op-amps/ad8038/products/product.html#product-recommendations
footprint ADI-KS-5_N (SOT23, 5-Leads, Body 2x1.25mm, Pitch 0.65mm, IPC Medium Density)
footprint ADI-KS-5_L (SOT23, 5-Leads, Body 2x1.25mm, Pitch 0.65mm, IPC High Density)
footprint ADI-KS-5_M (SOT23, 5-Leads, Body 2x1.25mm, Pitch 0.65mm, IPC Low Density)
pins: 1 VOUT (out), 2 -VS (power), 3 +IN (in), 4 -IN (in), 5 +VS (power)

## AD8038AKSZ-REEL
designator U?
Single Channel Low Power Operational Amplifier, 350 MHz BW, 425 V/us SR, Industrial, 5-pin SOT23 (KS-5), Reel; Generic Part Number: AD8038; Manufacturer: Analog Devices; PartNumber: AD8038AKSZ-REEL; Amplifiers Per Package: 1; Input Bias Current: 400nA; Input Offset Voltage: 500uV; Iq/Amp: 1.5mA; Small Signal Bandwidth: 350MHz; V Span Max: 12V; V Span Min: 3V; DatasheetVersion: Rev. G; PackageVersion: 072809-A; PackageReference: KS-5; PackageDescription: 5-Pin Thin Shrink Small Outline Transistor Package, Body 2 x 1.25 mm, Pitch 0.65 mm; Supplier 1: Digi-Key; Supplier Part Number 1: AD8038AKSZ-REEL-ND; Supplier 2: Newark; Supplier Part Number 2: 59K6256; Slew Rate: 425V/us; Mounting Technology: Surface Mount; Code_JEDEC: MO-203-AA; ComponentLink1Description: Manufacturer URL; ComponentLink1URL: http://www.analog.com/en/index.html; ComponentLink2Description: Datasheet; ComponentLink2URL: http://www.analog.com/static/imported-files/data_sheets/AD8038_8039.pdf; ComponentLink3Description: Package Specification; ComponentLink3URL: http://www.analog.com/static/imported-files/packages/PKG_PDF/SC70(KS)/KS_5.pdf; ComponentLink4Description: Reference Circuit; ComponentLink4URL: http://www.analog.com/en/all-operational-amplifiers-op-amps/operational-amplifiers-op-amps/ad8038/products/product.html#product-recommendations
footprint ADI-KS-5_N (SOT23, 5-Leads, Body 2x1.25mm, Pitch 0.65mm, IPC Medium Density)
footprint ADI-KS-5_L (SOT23, 5-Leads, Body 2x1.25mm, Pitch 0.65mm, IPC High Density)
footprint ADI-KS-5_M (SOT23, 5-Leads, Body 2x1.25mm, Pitch 0.65mm, IPC Low Density)
pins: 1 VOUT (out), 2 -VS (power), 3 +IN (in), 4 -IN (in), 5 +VS (power)

## AD8038AKSZ-REEL7
designator U?
Single Channel Low Power Operational Amplifier, 350 MHz BW, 425 V/us SR, Industrial, 5-pin SOT23 (KS-5), Reel; Generic Part Number: AD8038; Manufacturer: Analog Devices; PartNumber: AD8038AKSZ-REEL7; Amplifiers Per Package: 1; Input Bias Current: 400nA; Input Offset Voltage: 500uV; Iq/Amp: 1.5mA; Small Signal Bandwidth: 350MHz; V Span Max: 12V; V Span Min: 3V; DatasheetVersion: Rev. G; PackageVersion: 072809-A; PackageReference: KS-5; PackageDescription: 5-Pin Thin Shrink Small Outline Transistor Package, Body 2 x 1.25 mm, Pitch 0.65 mm; Supplier 1: Digi-Key; Supplier Part Number 1: AD8038AKSZ-REEL7TR-ND; Supplier 2: Digi-Key; Supplier Part Number 2: AD8038AKSZ-REEL7CT-ND; Supplier 3: Digi-Key; Supplier Part Number 3: AD8038AKSZ-REEL7DKR-ND; Supplier 4: Farnell; Supplier Part Number 4: 1838882; Supplier 5: Newark; Supplier Part Number 5: 63M0908; Slew Rate: 425V/us; Mounting Technology: Surface Mount; Code_JEDEC: MO-203-AA; ComponentLink1Description: Manufacturer URL; ComponentLink1URL: http://www.analog.com/en/index.html; ComponentLink2Description: Datasheet; ComponentLink2URL: http://www.analog.com/static/imported-files/data_sheets/AD8038_8039.pdf; ComponentLink3Description: Package Specification; ComponentLink3URL: http://www.analog.com/static/imported-files/packages/PKG_PDF/SC70(KS)/KS_5.pdf; ComponentLink4Description: Reference Circuit; ComponentLink4URL: http://www.analog.com/en/all-operational-amplifiers-op-amps/operational-amplifiers-op-amps/ad8038/products/product.html#product-recommendations
footprint ADI-KS-5_N (SOT23, 5-Leads, Body 2x1.25mm, Pitch 0.65mm, IPC Medium Density)
footprint ADI-KS-5_L (SOT23, 5-Leads, Body 2x1.25mm, Pitch 0.65mm, IPC High Density)
footprint ADI-KS-5_M (SOT23, 5-Leads, Body 2x1.25mm, Pitch 0.65mm, IPC Low Density)
pins: 1 VOUT (out), 2 -VS (power), 3 +IN (in), 4 -IN (in), 5 +VS (power)